# EAGLE library part UCC27321 (library ic)
UCC27321: MOSFET driver (Texas Instruments) inverting 15V, 600mA Iout, 9A Iout pulsed
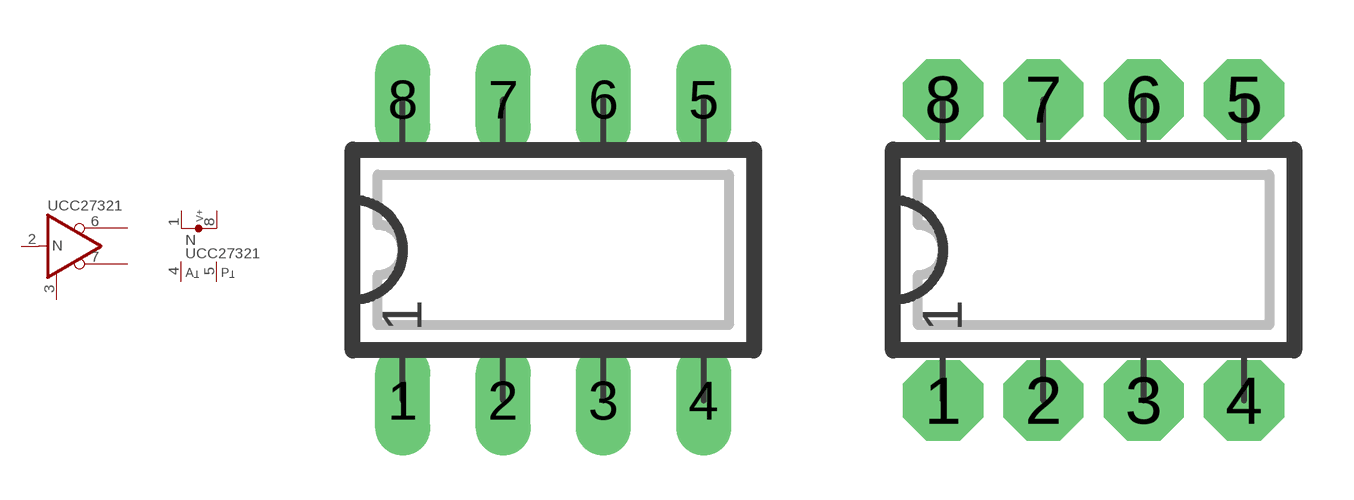
[diagram p74: symbol with the pads of DIP08L; footprints DIP08L, DIP08N]

Designator prefix N; gates  =INV-2O P=V2+2GND-1

## UCC27321  [DIP08L]
1  P:V+  pwr
2   :IN  in
3   :EN
4  P:AGND  pwr
5  P:PGND  pwr
6   :OUT  out
7   :OUT  out
8  P:V+  pwr

## UCC27321L  [DIP08L]
Pads as for DIP08L

## UCC27321N  [DIP08N]
Pads as for DIP08L

## UCC27321R  [DIP08R]
Pads as for DIP08L

## Footprint DIP08L (pad centres in mm)
DIP-8, long pads Standard IC package, 8 pins
drill 0.813 pad 1.397 long: 1 -3.81,-3.81; 2 -1.27,-3.81; 3 1.27,-3.81; 4 3.81,-3.81; 5 3.81,3.81; 6 1.27,3.81; 7 -1.27,3.81; 8 -3.81,3.81

## Footprint DIP08N (pad centres in mm)
DIP-8 Standard IC package, 8 pins
drill 0.813 pad 2.032 octagon: 1 -3.81,-3.81; 2 -1.27,-3.81; 3 1.27,-3.81; 4 3.81,-3.81; 5 3.81,3.81; 6 1.27,3.81; 7 -1.27,3.81; 8 -3.81,3.81

## Footprint DIP08R (pad centres in mm)
DIP-8, reduced pads Standard IC package, 8 pins
drill 0.813 pad 1.397 square: 1 -3.81,-3.81; 2 -1.27,-3.81; 3 1.27,-3.81; 4 3.81,-3.81; 5 3.81,3.81; 6 1.27,3.81; 7 -1.27,3.81; 8 -3.81,3.81